# Altium schematic symbol library IPP093N06N3 G.SchLib: 1 symbol
Pins are listed as number, name and electrical type; pins without a type are passive.

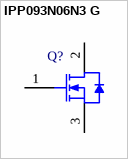
[diagram p0: symbol IPP093N06N3 G]

## IPP093N06N3 G
designator Q?
N-Channel OptiMOS 3 Power-Transistor, 60 V VDS, 50 A ID, -55 to 175 degC, PG-TO220-3-1, Tube, Green; Manufacturer: Infineon; PartNumber: IPP093N06N3 G; Green: TRUE; ID (max): 50 A; IDpuls (max): 200 A; Polarity: N; Ptot (max): 71 W; QG: 36 nC; RDS (on) (max): 9.3 mOhm; Rth: 1.6 K/W; RthJA (max): 62 K/W; VDS (max): 60 V; VGS(th) (max): 4 V; VGS(th) (min): 2 V; DatasheetVersion: Rev. 1.2; PackageVersion: Rev. 05, 08/2007; PackageReference: PG-TO220-3-1; PackageDescription: 3-Pin Plastic (Green) Transistor Single Outline Package, 10.03 x 8.98 mm Body, 2.54 mm Pitch; Supplier 1: Digi-Key; Supplier Part Number 1: IPP093N06N3 G-ND; Supplier 2: Mouser; Supplier Part Number 2: 726-IPP093N06N3G; Halogen-free: TRUE; Packing: Tube; RthJC (max): 1.6 K/W; Mounting Technology: Through Hole; ComponentLink1Description: Manufacturer URL; ComponentLink1URL: http://www.infineon.com/; ComponentLink2Description: Datasheet; ComponentLink2URL: http://www.infineon.com/dgdl/IPP_B093N06N3_Rev1.2.pdf?folderId=db3a304313b8b5a60113cee8763b02d7&fileId=db3a30432313ff5e0123a3593b1425eb; ComponentLink3Description: Package Specification; ComponentLink3URL: http://www.infineon.com/dgdl/IPP028N08N3_Rev1%5B1%5D.0.pdf?folderId=db3a304313b8b5a60113cee8763b02d7&fileId=db3a30432313ff5e0123a3c08e7326b5
footprint INF-PG-TO220-3-1_A_V (FM, 3-Leads, Body 10.03x8.98mm, Pitch 2.54mm)
pins: 1 GATE, 2 DRAIN, 3 SOURCE